# Altium footprint library Shunt_Resistor_Pcb.PcbLib: 1 footprints
Each footprint in its own frame and in the unit in brackets; x right, y up, seen from the top. Pads: shape width x height; smd on the part's side, far side on the other; paste and mask are expansions set on the pad; w line width, h text height; cw(c..) or ccw(c..) is an arc to the next point about the centre after c.
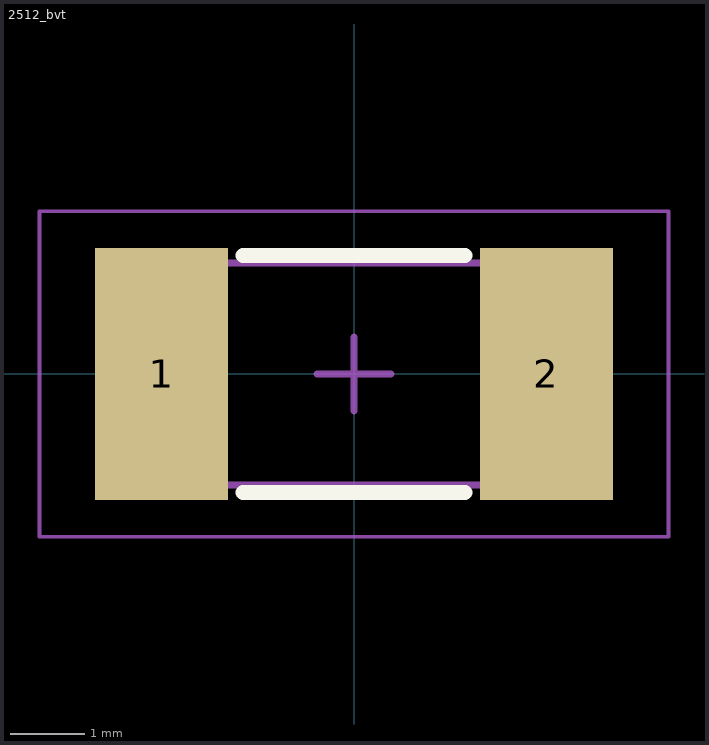
[diagram p0: the footprint, top view; thin cyan lines are the x and y axes]

## 2512_bvt [mm] "Chip Resistor, 2-Leads, Body 6.35x3.00mm, IPC Low Density"
height 1
pads (2):
  rect 1.8x3.4 smd: 1(-2.6,0) 2(2.6,0)
Top Overlay:
  lines w0.2: -1.5,-1.6 1.5,-1.6 ; -1.5,1.6 1.5,1.6
Mechanical 13:
  lines w0.1: -3.175,-1.5 -3.175,1.5 3.175,1.5 3.175,-1.5 -3.175,-1.5
  text "'.designator'" at -3,-1.212 h1
Mechanical 15:
  lines w0.05: -4.25,-2.2 -4.25,2.2 4.25,2.2 4.25,-2.2 -4.25,-2.2
  lines w0.1: -0.5,0 0.5,0 ; 0,-0.5 0,0.5
3D body "2512_BVT_SHUNT.step": height 0.83, standoff 0, extent -3.175,-1.525 3.175,1.525